# Altium schematic symbol library SCH - ARM Cortex - NXP K32L3A60VPJ1A.SchLib: 1 symbol
Pins are listed as number, name and electrical type; pins without a type are passive.

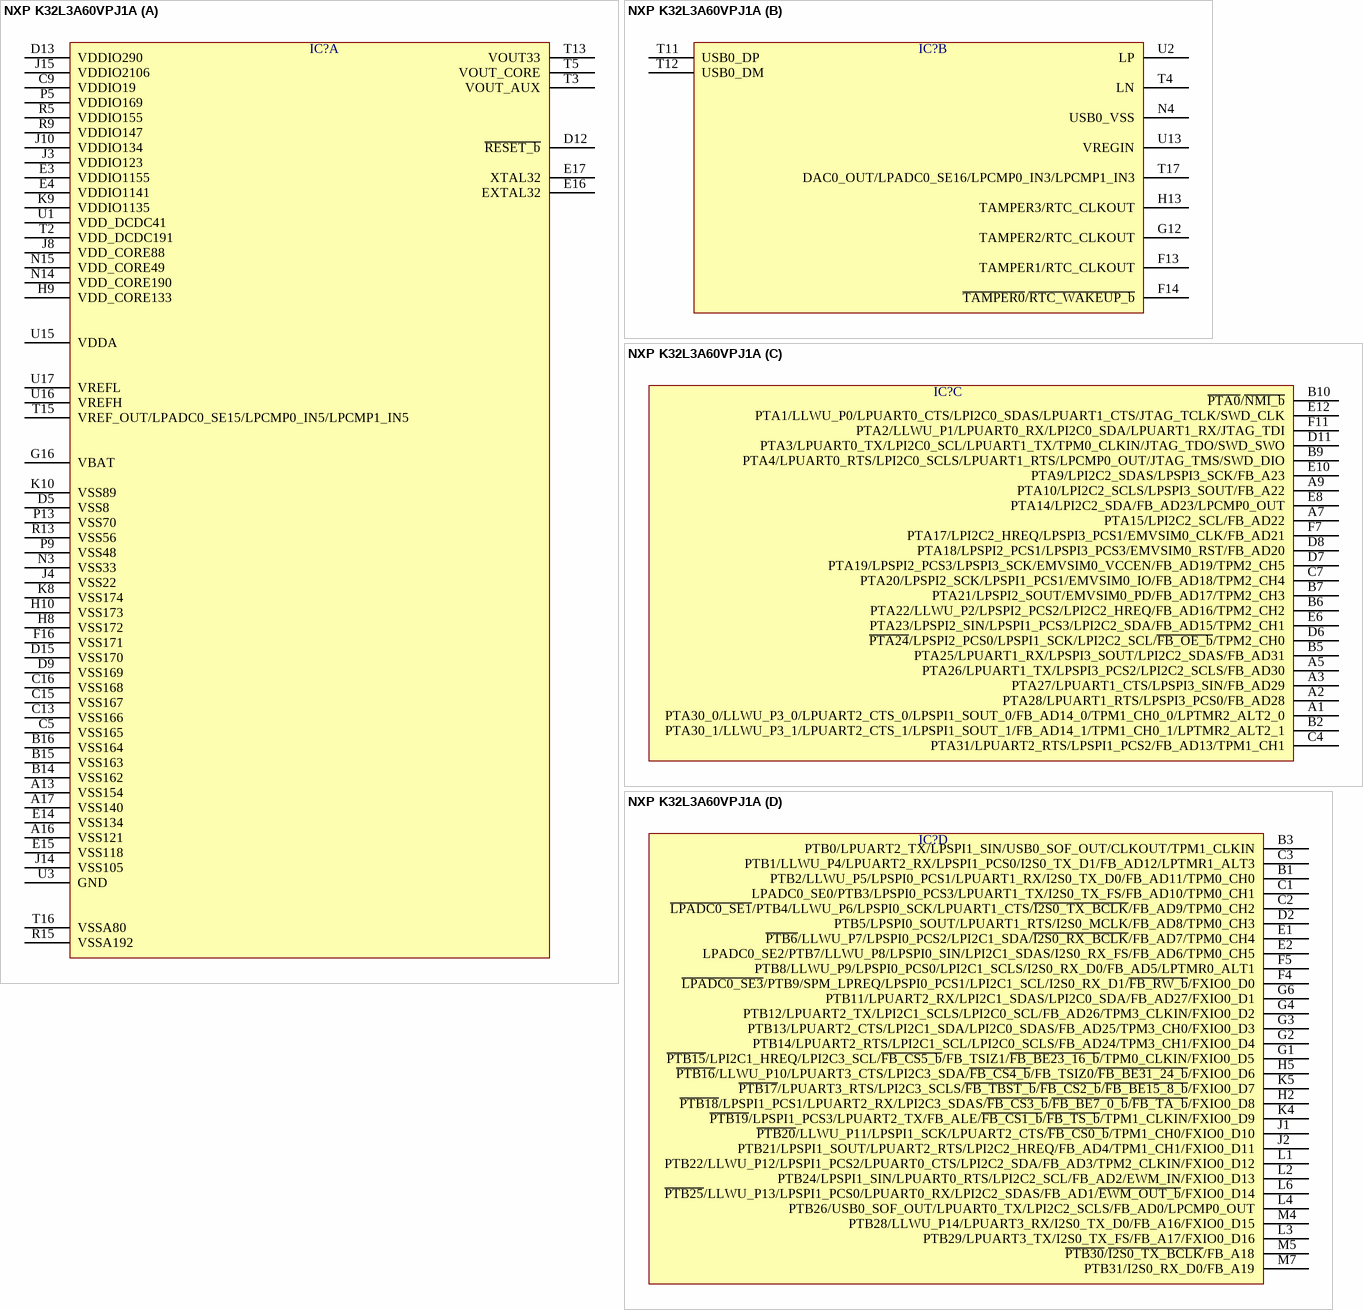
[diagram p0: symbol NXP K32L3A60VPJ1A]

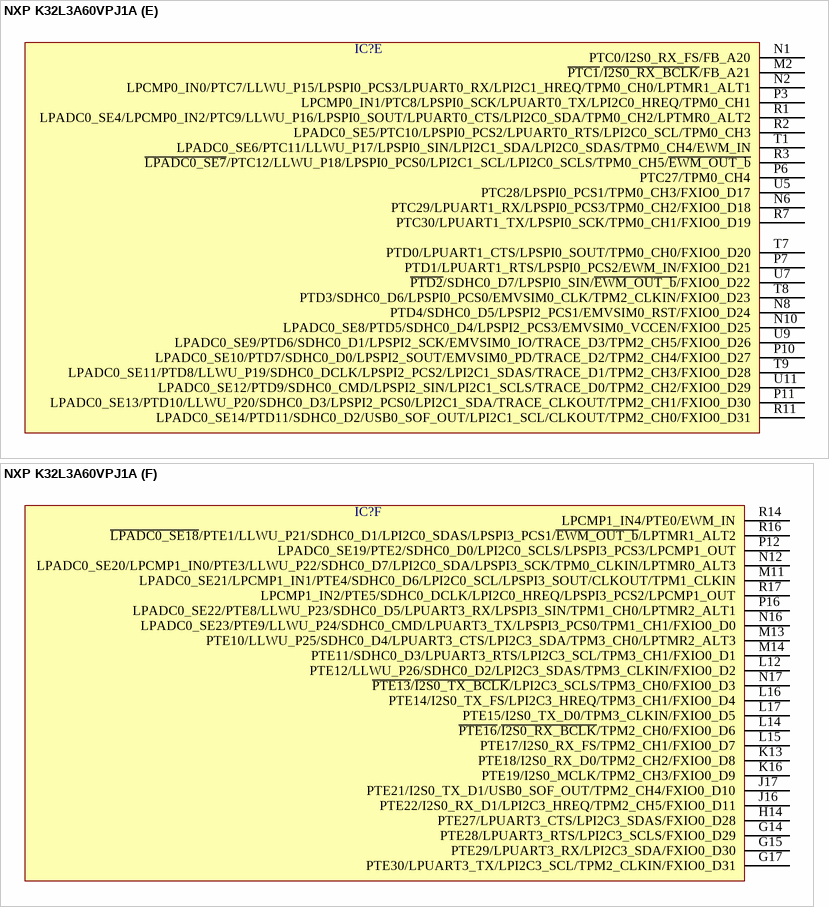
[diagram p1: symbol NXP K32L3A60VPJ1A]

## NXP K32L3A60VPJ1A
designator IC?  (value not drawn)
part A pins: A13 VSS154, A16 VSS121, A17 VSS140, B14 VSS162, B15 VSS163, B16 VSS164, C5 VSS165, C9 VDDIO19, C13 VSS166, C15 VSS167, C16 VSS168, D5 VSS8, D9 VSS169, D12 ~{RESET_b}, D13 VDDIO290, D15 VSS170, E3 VDDIO1155, E4 VDDIO1141, E14 VSS134, E15 VSS118, E16 EXTAL32, E17 XTAL32, F16 VSS171, G16 VBAT, H8 VSS172, H9 VDD_CORE133, H10 VSS173, J3 VDDIO123, J4 VSS22, J8 VDD_CORE88, J10 VDDIO134, J14 VSS105, J15 VDDIO2106, K8 VSS174, K9 VDDIO1135, K10 VSS89, N3 VSS33, N14 VDD_CORE190, N15 VDD_CORE49, P5 VDDIO169, P9 VSS48, P13 VSS70, R5 VDDIO155, R9 VDDIO147, R13 VSS56, R15 VSSA192, T2 VDD_DCDC191, T3 VOUT_AUX, T5 VOUT_CORE, T13 VOUT33, T15 VREF_OUT/LPADC0_SE15/LPCMP0_IN5/LPCMP1_IN5, T16 VSSA80, U1 VDD_DCDC41, U3 GND, U15 VDDA, U16 VREFH, U17 VREFL
part B pins: F13 TAMPER1/RTC_CLKOUT, F14 ~{TAMPER0}/~{RTC_WAKEUP_b}, G12 TAMPER2/RTC_CLKOUT, H13 TAMPER3/RTC_CLKOUT, N4 USB0_VSS, T4 LN, T11 USB0_DP, T12 USB0_DM, T17 DAC0_OUT/LPADC0_SE16/LPCMP0_IN3/LPCMP1_IN3, U2 LP, U13 VREGIN
part C pins: A1 PTA30_0/LLWU_P3_0/LPUART2_CTS_0/LPSPI1_SOUT_0/FB_AD14_0/TPM1_CH0_0/LPTMR2_ALT2_0, A2 PTA28/LPUART1_RTS/LPSPI3_PCS0/FB_AD28, A3 PTA27/LPUART1_CTS/LPSPI3_SIN/FB_AD29, A5 PTA26/LPUART1_TX/LPSPI3_PCS2/LPI2C2_SCLS/FB_AD30, A7 PTA15/LPI2C2_SCL/FB_AD22, A9 PTA10/LPI2C2_SCLS/LPSPI3_SOUT/FB_A22, B2 PTA30_1/LLWU_P3_1/LPUART2_CTS_1/LPSPI1_SOUT_1/FB_AD14_1/TPM1_CH0_1/LPTMR2_ALT2_1, B5 PTA25/LPUART1_RX/LPSPI3_SOUT/LPI2C2_SDAS/FB_AD31, B6 PTA22/LLWU_P2/LPSPI2_PCS2/LPI2C2_HREQ/FB_AD16/TPM2_CH2, B7 PTA21/LPSPI2_SOUT/EMVSIM0_PD/FB_AD17/TPM2_CH3, B9 PTA4/LPUART0_RTS/LPI2C0_SCLS/LPUART1_RTS/LPCMP0_OUT/JTAG_TMS/SWD_DIO, B10 ~{PTA0}/~{NMI_b}, C4 PTA31/LPUART2_RTS/LPSPI1_PCS2/FB_AD13/TPM1_CH1, C7 PTA20/LPSPI2_SCK/LPSPI1_PCS1/EMVSIM0_IO/FB_AD18/TPM2_CH4, D6 ~{PTA24}/LPSPI2_PCS0/LPSPI1_SCK/LPI2C2_SCL/~{FB_OE_b}/TPM2_CH0, D7 PTA19/LPSPI2_PCS3/LPSPI3_SCK/EMVSIM0_VCCEN/FB_AD19/TPM2_CH5, D8 PTA18/LPSPI2_PCS1/LPSPI3_PCS3/EMVSIM0_RST/FB_AD20, D11 PTA3/LPUART0_TX/LPI2C0_SCL/LPUART1_TX/TPM0_CLKIN/JTAG_TDO/SWD_SWO, E6 PTA23/LPSPI2_SIN/LPSPI1_PCS3/LPI2C2_SDA/FB_AD15/TPM2_CH1, E8 PTA14/LPI2C2_SDA/FB_AD23/LPCMP0_OUT, E10 PTA9/LPI2C2_SDAS/LPSPI3_SCK/FB_A23, E12 PTA1/LLWU_P0/LPUART0_CTS/LPI2C0_SDAS/LPUART1_CTS/JTAG_TCLK/SWD_CLK, F7 PTA17/LPI2C2_HREQ/LPSPI3_PCS1/EMVSIM0_CLK/FB_AD21, F11 PTA2/LLWU_P1/LPUART0_RX/LPI2C0_SDA/LPUART1_RX/JTAG_TDI
part D pins: B1 PTB2/LLWU_P5/LPSPI0_PCS1/LPUART1_RX/I2S0_TX_D0/FB_AD11/TPM0_CH0, B3 PTB0/LPUART2_TX/LPSPI1_SIN/USB0_SOF_OUT/CLKOUT/TPM1_CLKIN, C1 LPADC0_SE0/PTB3/LPSPI0_PCS3/LPUART1_TX/I2S0_TX_FS/FB_AD10/TPM0_CH1, C2 ~{LPADC0_SE1}/PTB4/LLWU_P6/LPSPI0_SCK/LPUART1_CTS/~{I2S0_TX_BCLK}/FB_AD9/TPM0_CH2, C3 PTB1/LLWU_P4/LPUART2_RX/LPSPI1_PCS0/I2S0_TX_D1/FB_AD12/LPTMR1_ALT3, D2 PTB5/LPSPI0_SOUT/LPUART1_RTS/I2S0_MCLK/FB_AD8/TPM0_CH3, E1 ~{PTB6}/LLWU_P7/LPSPI0_PCS2/LPI2C1_SDA/~{I2S0_RX_BCLK}/FB_AD7/TPM0_CH4, E2 LPADC0_SE2/PTB7/LLWU_P8/LPSPI0_SIN/LPI2C1_SDAS/I2S0_RX_FS/FB_AD6/TPM0_CH5, F4 ~{LPADC0_SE3}/PTB9/SPM_LPREQ/LPSPI0_PCS1/LPI2C1_SCL/I2S0_RX_D1/~{FB_RW_b}/FXIO0_D0, F5 PTB8/LLWU_P9/LPSPI0_PCS0/LPI2C1_SCLS/I2S0_RX_D0/FB_AD5/LPTMR0_ALT1, G1 ~{PTB15}/LPI2C1_HREQ/LPI2C3_SCL/~{FB_CS5_b}/FB_TSIZ1/~{FB_BE23_16_b}/TPM0_CLKIN/FXIO0_D5, G2 PTB14/LPUART2_RTS/LPI2C1_SCL/LPI2C0_SCLS/FB_AD24/TPM3_CH1/FXIO0_D4, G3 PTB13/LPUART2_CTS/LPI2C1_SDA/LPI2C0_SDAS/FB_AD25/TPM3_CH0/FXIO0_D3, G4 PTB12/LPUART2_TX/LPI2C1_SCLS/LPI2C0_SCL/FB_AD26/TPM3_CLKIN/FXIO0_D2, G6 PTB11/LPUART2_RX/LPI2C1_SDAS/LPI2C0_SDA/FB_AD27/FXIO0_D1, H2 ~{PTB18}/LPSPI1_PCS1/LPUART2_RX/LPI2C3_SDAS/~{FB_CS3_b}/~{FB_BE7_0_b}/~{FB_TA_b}/FXIO0_D8, H5 ~{PTB16}/LLWU_P10/LPUART3_CTS/LPI2C3_SDA/~{FB_CS4_b}/FB_TSIZ0/~{FB_BE31_24_b}/FXIO0_D6, J1 ~{PTB20}/LLWU_P11/LPSPI1_SCK/LPUART2_CTS/~{FB_CS0_b}/TPM1_CH0/FXIO0_D10, J2 PTB21/LPSPI1_SOUT/LPUART2_RTS/LPI2C2_HREQ/FB_AD4/TPM1_CH1/FXIO0_D11, K4 ~{PTB19}/LPSPI1_PCS3/LPUART2_TX/FB_ALE/~{FB_CS1_b}/~{FB_TS_b}/TPM1_CLKIN/FXIO0_D9, K5 ~{PTB17}/LPUART3_RTS/LPI2C3_SCLS/~{FB_TBST_b}/~{FB_CS2_b}/~{FB_BE15_8_b}/FXIO0_D7, L1 PTB22/LLWU_P12/LPSPI1_PCS2/LPUART0_CTS/LPI2C2_SDA/FB_AD3/TPM2_CLKIN/FXIO0_D12, L2 PTB24/LPSPI1_SIN/LPUART0_RTS/LPI2C2_SCL/FB_AD2/EWM_IN/FXIO0_D13, L3 PTB29/LPUART3_TX/I2S0_TX_FS/FB_A17/FXIO0_D16, L4 PTB26/USB0_SOF_OUT/LPUART0_TX/LPI2C2_SCLS/FB_AD0/LPCMP0_OUT, L6 ~{PTB25}/LLWU_P13/LPSPI1_PCS0/LPUART0_RX/LPI2C2_SDAS/FB_AD1/~{EWM_OUT_b}/FXIO0_D14, M4 PTB28/LLWU_P14/LPUART3_RX/I2S0_TX_D0/FB_A16/FXIO0_D15, M5 ~{PTB30}/~{I2S0_TX_BCLK}/FB_A18, M7 PTB31/I2S0_RX_D0/FB_A19
part E pins: M2 ~{PTC1}/~{I2S0_RX_BCLK}/FB_A21, N1 PTC0/I2S0_RX_FS/FB_A20, N2 LPCMP0_IN0/PTC7/LLWU_P15/LPSPI0_PCS3/LPUART0_RX/LPI2C1_HREQ/TPM0_CH0/LPTMR1_ALT1, N6 PTC29/LPUART1_RX/LPSPI0_PCS3/TPM0_CH2/FXIO0_D18, N8 PTD4/SDHC0_D5/LPSPI2_PCS1/EMVSIM0_RST/FXIO0_D24, N10 LPADC0_SE8/PTD5/SDHC0_D4/LPSPI2_PCS3/EMVSIM0_VCCEN/FXIO0_D25, P3 LPCMP0_IN1/PTC8/LPSPI0_SCK/LPUART0_TX/LPI2C0_HREQ/TPM0_CH1, P6 PTC27/TPM0_CH4, P7 PTD1/LPUART1_RTS/LPSPI0_PCS2/EWM_IN/FXIO0_D21, P10 LPADC0_SE10/PTD7/SDHC0_D0/LPSPI2_SOUT/EMVSIM0_PD/TRACE_D2/TPM2_CH4/FXIO0_D27, P11 LPADC0_SE13/PTD10/LLWU_P20/SDHC0_D3/LPSPI2_PCS0/LPI2C1_SDA/TRACE_CLKOUT/TPM2_CH1/FXIO0_D30, R1 LPADC0_SE4/LPCMP0_IN2/PTC9/LLWU_P16/LPSPI0_SOUT/LPUART0_CTS/LPI2C0_SDA/TPM0_CH2/LPTMR0_ALT2, R2 LPADC0_SE5/PTC10/LPSPI0_PCS2/LPUART0_RTS/LPI2C0_SCL/TPM0_CH3, R3 ~{LPADC0_SE7}/PTC12/LLWU_P18/LPSPI0_PCS0/LPI2C1_SCL/LPI2C0_SCLS/TPM0_CH5/~{EWM_OUT_b}, R7 PTC30/LPUART1_TX/LPSPI0_SCK/TPM0_CH1/FXIO0_D19, R11 LPADC0_SE14/PTD11/SDHC0_D2/USB0_SOF_OUT/LPI2C1_SCL/CLKOUT/TPM2_CH0/FXIO0_D31, T1 LPADC0_SE6/PTC11/LLWU_P17/LPSPI0_SIN/LPI2C1_SDA/LPI2C0_SDAS/TPM0_CH4/EWM_IN, T7 PTD0/LPUART1_CTS/LPSPI0_SOUT/TPM0_CH0/FXIO0_D20, T8 PTD3/SDHC0_D6/LPSPI0_PCS0/EMVSIM0_CLK/TPM2_CLKIN/FXIO0_D23, T9 LPADC0_SE11/PTD8/LLWU_P19/SDHC0_DCLK/LPSPI2_PCS2/LPI2C1_SDAS/TRACE_D1/TPM2_CH3/FXIO0_D28, U5 PTC28/LPSPI0_PCS1/TPM0_CH3/FXIO0_D17, U7 ~{PTD2}/SDHC0_D7/LPSPI0_SIN/~{EWM_OUT_b}/FXIO0_D22, U9 LPADC0_SE9/PTD6/SDHC0_D1/LPSPI2_SCK/EMVSIM0_IO/TRACE_D3/TPM2_CH5/FXIO0_D26, U11 LPADC0_SE12/PTD9/SDHC0_CMD/LPSPI2_SIN/LPI2C1_SCLS/TRACE_D0/TPM2_CH2/FXIO0_D29
part F pins: G14 PTE28/LPUART3_RTS/LPI2C3_SCLS/FXIO0_D29, G15 PTE29/LPUART3_RX/LPI2C3_SDA/FXIO0_D30, G17 PTE30/LPUART3_TX/LPI2C3_SCL/TPM2_CLKIN/FXIO0_D31, H14 PTE27/LPUART3_CTS/LPI2C3_SDAS/FXIO0_D28, J16 PTE22/I2S0_RX_D1/LPI2C3_HREQ/TPM2_CH5/FXIO0_D11, J17 PTE21/I2S0_TX_D1/USB0_SOF_OUT/TPM2_CH4/FXIO0_D10, K13 PTE18/I2S0_RX_D0/TPM2_CH2/FXIO0_D8, K16 PTE19/I2S0_MCLK/TPM2_CH3/FXIO0_D9, L12 PTE12/LLWU_P26/SDHC0_D2/LPI2C3_SDAS/TPM3_CLKIN/FXIO0_D2, L14 ~{PTE16}/~{I2S0_RX_BCLK}/TPM2_CH0/FXIO0_D6, L15 PTE17/I2S0_RX_FS/TPM2_CH1/FXIO0_D7, L16 PTE14/I2S0_TX_FS/LPI2C3_HREQ/TPM3_CH1/FXIO0_D4, L17 PTE15/I2S0_TX_D0/TPM3_CLKIN/FXIO0_D5, M11 LPADC0_SE21/LPCMP1_IN1/PTE4/SDHC0_D6/LPI2C0_SCL/LPSPI3_SOUT/CLKOUT/TPM1_CLKIN, M13 PTE10/LLWU_P25/SDHC0_D4/LPUART3_CTS/LPI2C3_SDA/TPM3_CH0/LPTMR2_ALT3, M14 PTE11/SDHC0_D3/LPUART3_RTS/LPI2C3_SCL/TPM3_CH1/FXIO0_D1, N12 LPADC0_SE20/LPCMP1_IN0/PTE3/LLWU_P22/SDHC0_D7/LPI2C0_SDA/LPSPI3_SCK/TPM0_CLKIN/LPTMR0_ALT3, N16 LPADC0_SE23/PTE9/LLWU_P24/SDHC0_CMD/LPUART3_TX/LPSPI3_PCS0/TPM1_CH1/FXIO0_D0, N17 ~{PTE13}/~{I2S0_TX_BCLK}/LPI2C3_SCLS/TPM3_CH0/FXIO0_D3, P12 LPADC0_SE19/PTE2/SDHC0_D0/LPI2C0_SCLS/LPSPI3_PCS3/LPCMP1_OUT, P16 LPADC0_SE22/PTE8/LLWU_P23/SDHC0_D5/LPUART3_RX/LPSPI3_SIN/TPM1_CH0/LPTMR2_ALT1, R14 LPCMP1_IN4/PTE0/EWM_IN, R16 ~{LPADC0_SE18}/PTE1/LLWU_P21/SDHC0_D1/LPI2C0_SDAS/LPSPI3_PCS1/~{EWM_OUT_b}/LPTMR1_ALT2, R17 LPCMP1_IN2/PTE5/SDHC0_DCLK/LPI2C0_HREQ/LPSPI3_PCS2/LPCMP1_OUT